# Altium schematic symbol library UMK105CH150JVHF.SchLib: 1 symbol
Pins are listed as number, name and electrical type; pins without a type are passive.

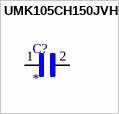
[diagram p0: symbol UMK105CH150JVHF]

## UMK105CH150JVHF
designator C?
CAP ,MLCC ,0402,50V ,C0H,15PF5% ,T&R; MP: UMK105CH150JVHF; Package: None; Price: None; Value: *; Availability: Unavailable
pins: 1, 2